# Altium schematic symbol library 基础连接件.SchLib: 6 symbols
Pins are listed as number, name and electrical type; pins without a type are passive.

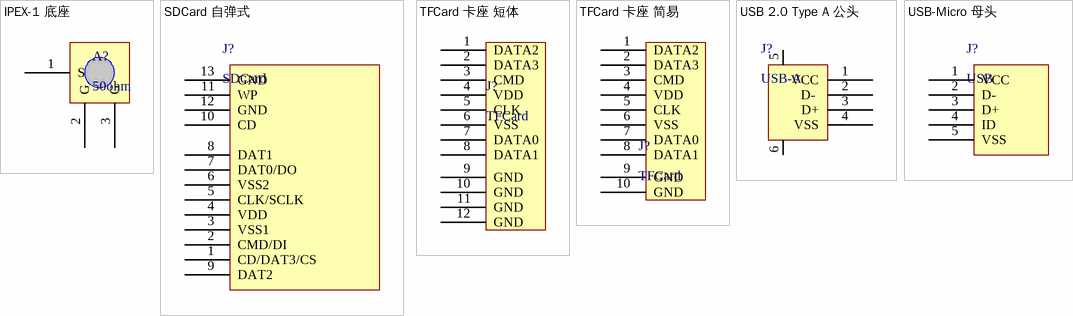
[diagram p0: symbols IPEX-1 底座 to USB-Micro 母头]

## IPEX-1 底座
designator A?, comment 50ohm
IPEX-1 底座
footprint IPEX-1 底座 (IPEX-1 底座 2.6mm×2.6mm)
pins: 1 S, 2 G, 3 G

## SDCard 自弹式
designator J?, comment SDCard
SDCard 自弹式
footprint SDCard-B (SDCard 自弹式)
pins: 1 CD/DAT3/CS, 2 CMD/DI, 3 VSS1, 4 VDD, 5 CLK/SCLK, 6 VSS2, 7 DAT0/DO, 8 DAT1, 9 DAT2, 10 CD, 11 WP, 12 GND, 13 GND

## TFCard 卡座 短体
designator J?, comment TFCard
TFCard 卡座 短体
footprint TFCard 卡座 短体 (TFCard 卡座 8Pin 短体)
pins: 1 DATA2, 2 DATA3, 3 CMD, 4 VDD, 5 CLK, 6 VSS, 7 DATA0, 8 DATA1, 9 GND, 10 GND, 11 GND, 12 GND

## TFCard 卡座 简易
designator J?, comment TFCard
TFCard 卡座 简易
footprint TFCard 卡座 简易 (TFCard 卡座 8Pin 简易 全塑 12.20mm×11.80mm)
pins: 1 DATA2, 2 DATA3, 3 CMD, 4 VDD, 5 CLK, 6 VSS, 7 DATA0, 8 DATA1, 9 GND, 10 GND

## USB 2.0 Type A 公头
designator J?, comment USB-A
USB 2.0 Type A 公头
footprint USB-A 公头 (直插 USB 2.0 Type A 公头 6Pin)
footprint USB-A 公头 沉板 (贴片 USB 2.0 Type A 公头 沉板)
pins: 1 VCC, 2 D- , 3 D+, 4 VSS, 5, 6

## USB-Micro 母头
designator J?, comment USB
USB-Micro 母头
footprint USB-Micro 母头 (贴片 Micro USB 母头 8Pin)
pins: 1 VCC, 2 D- , 3 D+, 4 ID, 5 VSS